# EAGLE library part RADIO-KLP-RECEIVER (library OpenSpace)
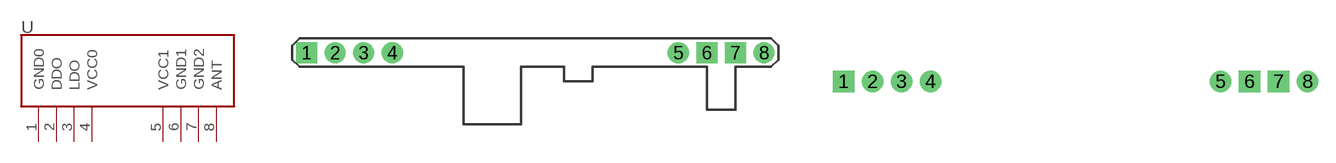
[diagram p8: symbol with the pads of RADIO-KLP-RECEIVER; footprints RADIO-KLP-RECEIVER, RADIO-KLP-RECEIVER-NOSILK]

Designator prefix -

## RADIO-KLP-RECEIVER  [RADIO-KLP-RECEIVER]
1  GND0
2  DDO
3  LDO
4  VCC0
5  VCC1
6  GND1
7  GND2
8  ANT

## RADIO-KLP-RECEIVER-NOSILK  [RADIO-KLP-RECEIVER-NOSILK]
Pads as for RADIO-KLP-RECEIVER

## Footprint RADIO-KLP-RECEIVER (pad centres in mm)
drill 1.016 pad 1.88 square: 1 -20.32,0; 6 15.24,0; 7 17.78,0
drill 1.016 pad 1.88: 2 -17.78,0; 3 -15.24,0; 4 -12.7,0; 5 12.7,0; 8 20.32,0

## Footprint RADIO-KLP-RECEIVER-NOSILK (pad centres in mm)
drill 1.016 pad 1.88 square: 1 -20.32,0; 6 15.24,0; 7 17.78,0
drill 1.016 pad 1.88: 2 -17.78,0; 3 -15.24,0; 4 -12.7,0; 5 12.7,0; 8 20.32,0